# Altium footprint library PcbLib1.PcbLib: 202 footprints (part 4 of 13)
Each footprint in its own frame and in the unit in brackets; x right, y up, seen from the top. Pads: shape width x height; smd on the part's side, far side on the other; paste and mask are expansions set on the pad; w line width, h text height; cw(c..) or ccw(c..) is an arc to the next point about the centre after c.
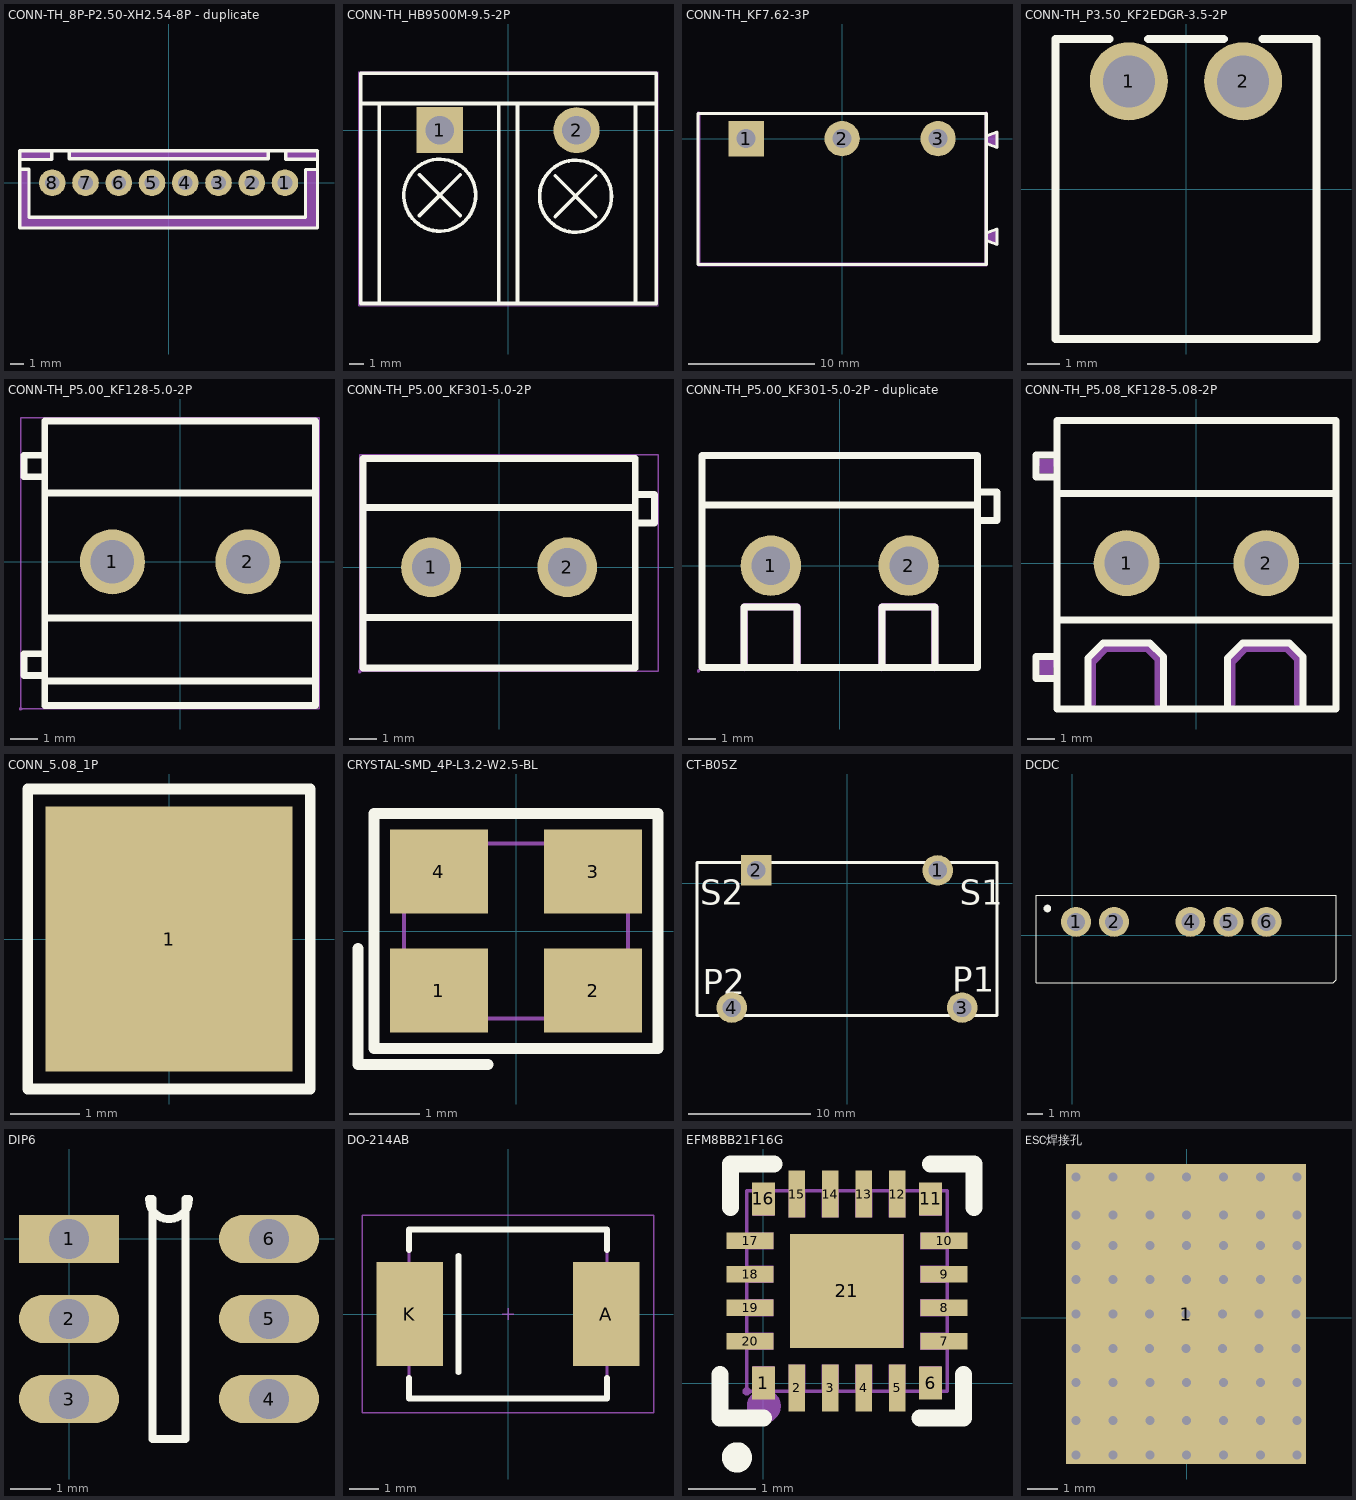
[diagram p3: the footprints below, top view; thin cyan lines are the x and y axes]

## CONN-TH_8P-P2.50-XH2.54-8P - duplicate [mil]
pads (8):
  round 78.7 hole 43.3: 1(344.5,0) 2(246.1,0) 3(147.7,0) 4(49.2,0) 5(-49.2,0) 6(-147.6,0) 7(-246,0) 8(-344.5,0)
Top Overlay:
  lines w10: -440.9,40 -413.4,40 -413.4,-102.4 405.5,-102.4 405.5,39.3 441,39.3 ; -440.9,68.9 -346.4,68.9 -346.4,94.4 ; -294,94.4 -294,70.8 295.3,70.8 295.3,94.4 ; 346.5,94.4 346.5,69.2 441,69.2 ; -440.9,-133.9 441,-133.9 441,94.4 -440.9,94.4 -440.9,-133.9
Mechanical 2:
  region: -440.9,66.9 -440.9,94.4 -346.4,94.4 -346.4,68.9 -348.5,66.9
  region: -291.3,94.4 -291.3,73.5 -294,70.8 295.3,70.8 295.3,94.4
  region: 346.5,94.4 346.5,69.2 441,69.2 441,94.4
  region: 405.5,39.3 441,39.3 441,-133.9 -440.9,-133.9 -440.9,40 -413.4,40 -413.4,-102.4 405.5,-102.4
Mechanical 6:
  lines w2: -442.9,-133.9 442.9,-133.9 442.9,94.4 -442.9,94.4 -442.9,-133.9
Mechanical 8:
  region: 445.3,94.4 444.9,93.2 443.9,92.3 442.6,92.1 441.4,92.7 440.7,93.8 440.7,95.1 441.4,96.2 442.6,96.8 443.9,96.6 444.9,95.7
Mechanical 9:
  region: 331.9,12.6 357.1,12.6 357.1,-12.6 331.9,-12.6
  region: 233.5,12.6 258.7,12.6 258.7,-12.6 233.5,-12.6
  region: 135.1,12.6 160.3,12.6 160.3,-12.6 135.1,-12.6
  region: 36.6,12.6 61.8,12.6 61.8,-12.6 36.6,-12.6
  region: -61.8,12.6 -36.6,12.6 -36.6,-12.6 -61.8,-12.6
  region: -160.2,12.6 -135,12.6 -135,-12.6 -160.2,-12.6
  region: -258.6,12.6 -233.4,12.6 -233.4,-12.6 -258.6,-12.6
  region: -357.1,12.6 -331.9,12.6 -331.9,-12.6 -357.1,-12.6

## CONN-TH_HB9500M-9.5-2P [mm]
pads (2):
  rect 3.21x3.2 hole 2: 1(-4.75,0)
  round 3.2 hole 2: 2(4.75,0)
Top Overlay:
  circle w0.254: c4.68,-4.59 r2.5
  circle w0.254: c-4.75,-4.52 r2.5
  lines w0.254: -10.25,1.855 10.25,1.855 ; -8.95,-12.051 -8.95,1.749 ; -6.164,-5.934 -3.336,-3.106 ; -6.164,-3.106 -3.336,-5.934 ; -0.65,-12.051 -0.65,1.749 ; 0.65,-12.051 0.65,1.749 ; 3.266,-6.004 6.094,-3.176 ; 3.266,-3.176 6.094,-6.004 ; 8.85,-12.051 8.85,1.749 ; 10.25,-12.051 -10.25,-12.051 -10.25,3.949 10.25,3.949 ; 10.287,-12.065 10.287,3.937
Mechanical 15:
  region: -3.85,0 -3.85,0.118 -3.911,0.347 -4.03,0.553 -4.197,0.72 -4.403,0.839 -4.632,0.9 -4.869,0.9 -5.098,0.839 -5.303,0.72 -5.47,0.553 -5.589,0.347 -5.65,0.118 -5.65,0 -5.65,-0.119 -5.589,-0.347 -5.47,-0.553 -5.303,-0.72 -5.097,-0.839 -4.869,-0.9 -4.632,-0.9 -4.403,-0.839 -4.197,-0.72 -4.03,-0.553 -3.911,-0.347 -3.85,-0.118
  region: 5.65,0 5.65,0.118 5.589,0.347 5.47,0.553 5.303,0.72 5.097,0.839 4.868,0.9 4.632,0.9 4.403,0.839 4.197,0.72 4.03,0.553 3.911,0.347 3.85,0.118 3.85,0 3.85,-0.119 3.911,-0.347 4.03,-0.553 4.197,-0.72 4.403,-0.839 4.632,-0.9 4.869,-0.9 5.097,-0.839 5.303,-0.72 5.47,-0.553 5.589,-0.347 5.65,-0.118
  region: -10.317,-12.192 -10.317,-12.167 -10.352,-12.132 -10.402,-12.132 -10.437,-12.167 -10.437,-12.192 -10.437,-12.217 -10.402,-12.252 -10.352,-12.252 -10.317,-12.217
  lines w0.051: -10.377,-12.192 10.414,-12.192 10.414,4.077 -10.377,4.077 -10.377,-12.192

## CONN-TH_KF7.62-3P [mm]
pads (3):
  rect 2.8x2.8 hole 1.5: 1(-7.62,0)
  round 2.8 hole 1.5: 2(0,0) 3(7.62,0)
Top Overlay:
  lines w0.254: -11.45,-10 11.45,-10 11.45,2 -11.45,2 -11.45,-9.95 ; 11.45,-8.093 12.301,-8.401 12.301,-7.181 11.45,-7.489 ; 11.45,-0.392 12.3,-0.701 12.3,0.52 11.45,0.211
Mechanical 6:
  region: -11.273,2 -11.273,-9.873 11.323,-9.873 11.323,2 11.323,2.053 11.397,2.127 11.503,2.127 11.577,2.053 11.577,2 11.577,-10 11.577,-10.025 11.558,-10.072 11.522,-10.108 11.475,-10.127 11.45,-10.127 -11.4,-10.127 -11.425,-10.127 -11.472,-10.108 -11.508,-10.072 -11.527,-10.025 -11.527,-10 -11.527,2 -11.527,2.053 -11.453,2.127 -11.347,2.127 -11.273,2.053
  region: 12.299,-0.7 12.299,0.52 11.449,0.22 11.449,-0.38
  region: 12.301,-8.401 12.301,-7.181 11.45,-7.481 11.45,-8.081
Mechanical 15:
  region: -11.37,-10 -11.371,-9.976 -11.406,-9.942 -11.454,-9.942 -11.489,-9.976 -11.49,-10 -11.489,-10.024 -11.454,-10.058 -11.406,-10.058 -11.371,-10.024
  region: -8.22,0.3 -7.02,0.3 -7.02,-0.3 -8.22,-0.3
  region: -0.6,0.3 0.6,0.3 0.6,-0.3 -0.6,-0.3
  region: 7.02,0.3 8.22,0.3 8.22,-0.3 7.02,-0.3
  lines w0.051: -11.43,-10 -11.43,2 11.43,2 11.43,-10 -11.43,-10

## CONN-TH_P3.50_KF2EDGR-3.5-2P [mm]
pads (2):
  round 2.4 hole 1.6 paste-2539.97 mask+0.051: 1(-1.75,3.3) 2(1.75,3.3)
Top Overlay:
  lines w0.254: -2.345,4.6 -4,4.6 -4,-4.6 4,-4.6 4,4.6 2.345,4.6 ; -1.155,4.6 1.155,4.6

## CONN-TH_P5.00_KF128-5.0-2P [mm]
pads (2):
  round 2.4 hole 1.6: 1(-2.5,0) 2(2.5,0)
Top Overlay:
  lines w0.254: -5,-4.405 5,-4.405 ; -5,-4.191 -5.762,-4.191 -5.762,-3.393 -5,-3.393 ; -5,-2.073 5,-2.073 ; -5,2.537 5,2.537 ; -5,3.139 -5.762,3.139 -5.762,3.937 -5,3.937 ; -5,5.2 5,5.2 5,-5.3 -5,-5.3 -5,5.2
Mechanical 15:
  region: -1.8,0 -1.801,0.092 -1.85,0.268 -1.942,0.426 -2.072,0.555 -2.231,0.646 -2.408,0.693 -2.592,0.693 -2.769,0.646 -2.928,0.555 -3.058,0.426 -3.15,0.268 -3.199,0.091 -3.2,0 -3.199,-0.092 -3.15,-0.268 -3.058,-0.426 -2.927,-0.555 -2.769,-0.646 -2.592,-0.693 -2.408,-0.693 -2.231,-0.646 -2.072,-0.555 -1.942,-0.426 -1.85,-0.268 -1.801,-0.092
  region: 3.2,0 3.199,0.092 3.15,0.268 3.058,0.426 2.928,0.555 2.769,0.646 2.592,0.693 2.408,0.693 2.231,0.646 2.072,0.555 1.942,0.426 1.85,0.268 1.801,0.091 1.8,0 1.801,-0.092 1.85,-0.268 1.942,-0.426 2.073,-0.555 2.231,-0.646 2.408,-0.693 2.592,-0.693 2.769,-0.646 2.928,-0.555 3.058,-0.426 3.15,-0.268 3.199,-0.092
  region: -5.829,-5.427 -5.829,-5.402 -5.864,-5.367 -5.914,-5.367 -5.949,-5.402 -5.949,-5.427 -5.949,-5.452 -5.914,-5.487 -5.864,-5.487 -5.829,-5.452
  lines w0.051: -5.889,-5.427 5.127,-5.427 5.127,5.327 -5.889,5.327 -5.889,-5.427

## CONN-TH_P5.00_KF301-5.0-2P [mm]
pads (2):
  round 2.2 hole 1.4: 1(-2.5,0) 2(2.5,0)
Top Overlay:
  lines w0.254: -5,-1.845 5,-1.845 ; -5,2.201 5,2.201 ; 5.08,1.626 5.708,1.626 5.708,2.667 5.08,2.667 ; -5,-3.7 -5,4 5,4 5,-3.7 -5,-3.7
Mechanical 15:
  region: -1.9,0 -1.902,0.118 -1.994,0.336 -2.163,0.502 -2.382,0.592 -2.618,0.592 -2.837,0.502 -3.006,0.336 -3.098,0.118 -3.1,0 -3.098,-0.118 -3.006,-0.336 -2.837,-0.502 -2.618,-0.592 -2.382,-0.592 -2.163,-0.502 -1.994,-0.336 -1.902,-0.118
  region: 3.1,0 3.098,0.118 3.006,0.336 2.837,0.502 2.618,0.592 2.382,0.592 2.163,0.502 1.994,0.336 1.902,0.118 1.9,0 1.902,-0.118 1.994,-0.336 2.163,-0.502 2.382,-0.592 2.618,-0.592 2.837,-0.502 3.006,-0.336 3.098,-0.118
  region: -5.067,-3.827 -5.067,-3.802 -5.102,-3.767 -5.152,-3.767 -5.187,-3.802 -5.187,-3.827 -5.187,-3.852 -5.152,-3.887 -5.102,-3.887 -5.067,-3.852
  lines w0.051: -5.127,-3.827 5.835,-3.827 5.835,4.127 -5.127,4.127 -5.127,-3.827

## CONN-TH_P5.00_KF301-5.0-2P - duplicate [mm]
pads (2):
  round 2.2 hole 1.4 paste-2539.97 mask+0.051: 1(-2.499,0) 2(2.499,0)
Top Overlay:
  lines w0.254: -4.999,2.202 5.001,2.202 ; -3.47,-3.701 -3.47,-1.501 -1.549,-1.501 -1.549,-3.701 ; 1.532,-3.698 1.532,-1.499 3.449,-1.499 3.449,-3.698 ; 5.08,1.628 5.707,1.628 5.707,2.667 5.08,2.667 ; -4.999,-3.698 5.001,-3.698 5.001,4 -4.999,4 -4.999,-3.698
Mechanical 2:
  region: 1.405,-3.701 1.405,-1.501 1.415,-1.453 1.443,-1.41 1.483,-1.384 1.532,-1.374 3.452,-1.374 3.5,-1.384 3.541,-1.41 3.569,-1.453 3.579,-1.501 3.579,-3.701 3.569,-3.749 3.541,-3.79 3.5,-3.818 3.452,-3.828 3.404,-3.818 3.363,-3.79 3.335,-3.749 3.325,-3.701 3.325,-1.628 1.659,-1.628 1.659,-3.701 1.648,-3.749 1.621,-3.79 1.58,-3.818 1.532,-3.828 1.483,-3.818 1.443,-3.79 1.415,-3.749
  region: -3.597,-3.701 -3.597,-1.501 -3.586,-1.453 -3.559,-1.41 -3.518,-1.382 -3.47,-1.374 -1.549,-1.374 -1.499,-1.382 -1.458,-1.41 -1.43,-1.453 -1.422,-1.501 -1.422,-3.701 -1.43,-3.749 -1.458,-3.79 -1.499,-3.818 -1.549,-3.828 -1.598,-3.818 -1.638,-3.79 -1.666,-3.749 -1.676,-3.701 -1.676,-1.628 -3.343,-1.628 -3.343,-3.701 -3.35,-3.749 -3.378,-3.79 -3.419,-3.818 -3.47,-3.828 -3.518,-3.818 -3.559,-3.79 -3.586,-3.749
Mechanical 6:
  lines w0.051: -4.999,-3.599 5.001,-3.599 5.001,4 -4.999,4 -4.999,-3.599
Mechanical 8:
  region: -5.067,-3.825 -5.077,-3.858 -5.103,-3.881 -5.136,-3.886 -5.166,-3.871 -5.184,-3.843 -5.184,-3.81 -5.166,-3.782 -5.136,-3.767 -5.103,-3.772 -5.077,-3.795
Mechanical 9:
  region: -1.999,0 -2.009,-0.097 -2.037,-0.191 -2.083,-0.277 -2.146,-0.353 -2.222,-0.414 -2.309,-0.462 -2.403,-0.49 -2.499,-0.5 -2.596,-0.49 -2.69,-0.462 -2.776,-0.414 -2.852,-0.353 -2.916,-0.277 -2.962,-0.191 -2.99,-0.097 -3,0 -2.99,0.099 -2.962,0.193 -2.916,0.279 -2.852,0.356 -2.776,0.417 -2.69,0.462 -2.596,0.49 -2.499,0.5 -2.403,0.49 -2.309,0.462 -2.222,0.417 -2.146,0.356 -2.083,0.279 -2.037,0.193 -2.009,0.099
  region: 3,0 2.99,-0.097 2.962,-0.191 2.916,-0.277 2.855,-0.353 2.779,-0.414 2.692,-0.462 2.598,-0.49 2.499,-0.5 2.403,-0.49 2.309,-0.462 2.222,-0.414 2.146,-0.353 2.085,-0.277 2.04,-0.191 2.009,-0.097 2.002,0 2.009,0.099 2.04,0.193 2.085,0.279 2.146,0.356 2.222,0.417 2.309,0.462 2.403,0.49 2.499,0.5 2.598,0.49 2.692,0.462 2.779,0.417 2.855,0.356 2.916,0.279 2.962,0.193 2.99,0.099

## CONN-TH_P5.08_KF128-5.08-2P [mm]
pads (2):
  round 2.4 hole 1.6: 1(-2.54,0) 2(2.54,0)
Top Overlay:
  lines w0.254: -5.08,-4.191 -5.842,-4.191 -5.842,-3.393 -5.08,-3.393 ; -5.08,-2.073 5.08,-2.073 ; -5.08,2.537 5.08,2.537 ; -5.08,3.139 -5.842,3.139 -5.842,3.937 -5.08,3.937 ; -5.08,5.2 5.08,5.2 5.08,-5.3 -5.08,-5.3 -5.08,5.2 ; -3.95,-5.3 -3.95,-3.45 -3.4,-2.9 -1.7,-2.9 -1.2,-3.4 -1.2,-5.3 ; 1.13,-5.3 1.13,-3.45 1.68,-2.9 3.38,-2.9 3.88,-3.4 3.88,-5.3
Mechanical 6:
  region: 1.153,-5.1 1.153,-3.6 1.153,-3.587 1.158,-3.563 1.167,-3.54 1.181,-3.519 1.19,-3.51 1.69,-3.01 1.699,-3.001 1.72,-2.987 1.743,-2.978 1.767,-2.973 1.78,-2.973 3.28,-2.973 3.293,-2.973 3.317,-2.978 3.34,-2.987 3.361,-3.001 3.37,-3.01 3.77,-3.41 3.779,-3.419 3.793,-3.44 3.802,-3.463 3.807,-3.487 3.807,-3.5 3.807,-5.1 3.807,-5.153 3.733,-5.227 3.627,-5.227 3.553,-5.153 3.553,-5.1 3.553,-3.553 3.227,-3.227 1.833,-3.227 1.407,-3.653 1.407,-5.1 1.407,-5.153 1.333,-5.227 1.227,-5.227 1.153,-5.153
  region: -3.927,-5.1 -3.927,-3.6 -3.927,-3.587 -3.922,-3.563 -3.913,-3.54 -3.899,-3.519 -3.89,-3.51 -3.39,-3.01 -3.381,-3.001 -3.36,-2.987 -3.337,-2.978 -3.313,-2.973 -3.3,-2.973 -1.8,-2.973 -1.787,-2.973 -1.763,-2.978 -1.74,-2.987 -1.719,-3.001 -1.71,-3.01 -1.31,-3.41 -1.301,-3.419 -1.287,-3.44 -1.278,-3.463 -1.273,-3.487 -1.273,-3.5 -1.273,-5.1 -1.273,-5.153 -1.347,-5.227 -1.453,-5.227 -1.527,-5.153 -1.527,-5.1 -1.527,-3.553 -1.853,-3.227 -3.247,-3.227 -3.673,-3.653 -3.673,-5.1 -3.673,-5.153 -3.747,-5.227 -3.853,-5.227 -3.927,-5.153
  region: -5.2,-3.53 -5.71,-3.53 -5.71,-4.06 -5.22,-4.06
  region: -5.2,3.79 -5.72,3.79 -5.71,3.28 -5.22,3.26
Mechanical 15:
  region: -2.99,-0.4 -2.99,0.4 -2.09,0.4 -2.09,-0.4
  region: 2.09,-0.4 2.09,0.4 2.99,0.4 2.99,-0.4
  region: -5.02,-5.3 -5.021,-5.276 -5.056,-5.242 -5.104,-5.242 -5.139,-5.276 -5.14,-5.3 -5.139,-5.324 -5.104,-5.358 -5.056,-5.358 -5.021,-5.324
  lines w0.051: -5.08,-5.3 -5.08,5.3 5.08,5.3 5.08,-5.3 -5.08,-5.3

## CONN_5.08_1P [mil]
pads (1):
  rect 140x150 smd: 1(0,0)
Top Overlay:
  lines w6: -80,-85 -80,85 80,85 80,-85 -80,-85

## CRYSTAL-SMD_4P-L3.2-W2.5-BL [mm]
pads (4):
  rect 1.4x1.2 smd: 1(-1.1,-0.85) 2(1.1,-0.85) 3(1.1,0.85) 4(-1.1,0.85)
Top Overlay:
  lines w0.152: -2.257,-0.25 -2.257,-1.907 -0.4,-1.907 ; -2.029,-1.678 -2.029,1.679 2.029,1.679 2.029,-1.678 -2.029,-1.678
Mechanical 6:
  circle w0.36: c-1.143,-0.889 r0.18
Mechanical 15:
  region: -1.54,-1.25 -1.54,-1.225 -1.575,-1.19 -1.625,-1.19 -1.66,-1.225 -1.66,-1.25 -1.66,-1.275 -1.625,-1.31 -1.575,-1.31 -1.54,-1.275
  region: -1.5,1.15 -0.6,1.15 -0.6,0.35 -1.5,0.35
  region: 0.6,1.15 1.5,1.15 1.5,0.35 0.6,0.35
  region: 0.6,-0.35 1.5,-0.35 1.5,-1.15 0.6,-1.15
  region: -1.5,-0.35 -0.6,-0.35 -0.6,-1.15 -1.5,-1.15
  lines w0.051: -1.6,-1.25 -1.6,1.25 1.6,1.25 1.6,-1.25 -1.6,-1.25

## CT-B05Z [mm]
pads (4):
  round 2.5 hole 1.5 paste-2539.97 mask+0.102: 1(7.4,1.036) 3(9.4,-10.165) 4(-9.4,-10.165)
  rect 2.5x2.5 hole 1.5 paste-2539.97 mask+0.102: 2(-7.4,1.036)
Top Overlay:
  lines w0.254: -12.25,-10.814 12.25,-10.814 12.25,1.686 -12.25,1.686 -12.25,-10.814
  text "P1" at 8.6,-8.88 h2.03
  text "P2" at -11.8,-9.081 h2.03
  text "S2" at -12,-1.78 h2.03
  text "S1" at 9.2,-1.78 h2.03

## DCDC [mm]
pads (5):
  round 2 hole 1.2: 1(0.254,0.889) 2(2.794,0.889) 4(7.874,0.889) 5(10.414,0.889) 6(12.954,0.889)
Top Overlay:
  circle w0.254: c-1.651,1.778 r0.127
  lines w0.025: -2.413,-3.175 17.394,-3.175 17.587,-2.982 17.587,2.667 -2.413,2.667 -2.413,-3.175

## DIP6 [mm]
pads (6):
  rect 2.5x1.2 hole 1: 1(0,0)
  oval 2.5x1.2 hole 1: 2(0,-2) 3(0,-4) 4(5,-4) 5(5,-2) 6(5,0)
Top Overlay:
  lines w0.2: 2,1 ccw(c2.5,1) 3,1 2.915,1 2.915,-5 2.085,-5 2.085,1 2,1

## DO-214AB [mil]
pads (2):
  rect 90x140 smd: A(132.87,0) K(-132.87,0)
Top Overlay:
  lines w7.87: -133.86,-86.61 -133.86,-114.17 133.86,-114.17 133.86,-86.61 ; -133.86,86.61 -133.86,114.17 133.86,114.17 133.86,86.61 ; -66.93,-78.74 -66.93,78.74
Mechanical 13:
  lines w3.94: -133.86,-62.99 -153.54,-62.99 -153.54,62.99 -133.86,62.99 ; 133.86,-62.99 153.54,-62.99 153.54,62.99 133.86,62.99 ; -133.86,-114.17 -133.86,114.17 133.86,114.17 133.86,-114.17 -133.86,-114.17
Mechanical 15:
  lines w1.97: -7.87,0 7.87,0 ; 0,-7.87 0,7.87 ; -196.85,-133.86 196.85,-133.86 196.85,133.86 -196.85,133.86 -196.85,-133.86
3D body: height 39.37, standoff 0, extent -153.52,-62.97 -133.88,62.97
3D body: height 90.55, standoff 0, extent -133.84,-114.15 133.84,114.15
3D body: height 39.37, standoff 0, extent 133.88,-62.97 153.52,62.97

## EFM8BB21F16G [mil]
pads (21):
  rect 13.4x19.7 smd mask+1.97: 1(0,0) 6(98.5,0) 11(98.5,108.4) 16(0,108.4)
  rect 9.8x27.6 smd mask+1.97: 2(19.7,-2.9) 3(39.4,-2.9) 4(59.1,-2.9) 5(78.8,-2.9) 12(78.8,111.3) 13(59.1,111.3) 14(39.4,111.3) 15(19.7,111.3)
  rect 27.6x9.8 smd mask+1.97: 7(106.4,24.7) 8(106.4,44.4) 9(106.4,64) 10(106.4,83.7) 17(-7.8,83.7) 18(-7.8,64) 19(-7.8,44.4) 20(-7.8,24.7)
  rect 66.9x66.9 smd mask+1.97: 21(49.2,54.2)
Top Overlay:
  circle w10: c-15.6,-43.8 r3.9
  lines w10: -25.6,5 -25.6,-20.6 0,-20.6 ; -19.3,103.4 -19.3,129 6.3,129 ; 92.2,-20.6 117.8,-20.6 117.8,5 ; 98.5,129 124.1,129 124.1,103.4
Mechanical 6:
  circle w10: c0.3,-13.6 r5
Mechanical 15:
  region: -7.4,-4.9 -7.4,-3.91 -8.81,-2.5 -10.79,-2.5 -12.2,-3.91 -12.2,-4.9 -12.2,-5.89 -10.79,-7.3 -8.81,-7.3 -7.4,-5.89
  region: 15.8,87.7 82.7,87.7 82.7,20.7 15.8,20.7
  region: -6.3,111.2 6.3,111.2 6.3,98.6 -6.3,98.6
  region: -6.3,9.8 6.3,9.8 6.3,-2.8 -6.3,-2.8
  region: 92.2,111.2 104.8,111.2 104.8,98.6 92.2,98.6
  region: 92.2,9.8 104.8,9.8 104.8,-2.8 92.2,-2.8
  region: -9.8,29.6 5.9,29.6 5.9,19.7 -9.8,19.7
  region: -9.8,49.3 5.9,49.3 5.9,39.4 -9.8,39.4
  region: -9.8,69 5.9,69 5.9,59.1 -9.8,59.1
  region: -9.8,88.6 5.9,88.6 5.9,78.8 -9.8,78.8
  region: 14.8,113.3 24.6,113.3 24.6,97.5 14.8,97.5
  region: 34.5,113.3 44.3,113.3 44.3,97.5 34.5,97.5
  region: 54.2,113.3 64,113.3 64,97.5 54.2,97.5
  region: 73.8,113.3 83.7,113.3 83.7,97.5 73.8,97.5
  region: 92.5,88.6 108.3,88.6 108.3,78.8 92.5,78.8
  region: 92.5,69 108.3,69 108.3,59.1 92.5,59.1
  region: 92.5,49.3 108.3,49.3 108.3,39.4 92.5,39.4
  region: 92.5,29.6 108.3,29.6 108.3,19.7 92.5,19.7
  region: 73.8,10.9 83.7,10.9 83.7,-4.9 73.8,-4.9
  region: 54.2,10.9 64,10.9 64,-4.9 54.2,-4.9
  region: 34.5,10.9 44.3,10.9 44.3,-4.9 34.5,-4.9
  region: 14.8,10.9 24.6,10.9 24.6,-4.9 14.8,-4.9
  lines w2: -9.8,-4.9 108.3,-4.9 108.3,113.3 -9.8,113.3 -9.8,-4.9

## ESC焊接孔 [mm]
pads (1):
  rect 8x10 all layers, no hole: 1(-0.021,0.127)
via -2.462,0.127 diameter 0.6 hole 0.3
via -2.455,-2.159 diameter 0.6 hole 0.3
via -2.462,-1.016 diameter 0.6 hole 0.3
via -2.455,1.27 diameter 0.6 hole 0.3
via -2.455,-4.572 diameter 0.6 hole 0.3
via -2.455,-3.429 diameter 0.6 hole 0.3
via -2.455,2.413 diameter 0.6 hole 0.3
via -2.455,3.429 diameter 0.6 hole 0.3
via -2.455,4.699 diameter 0.6 hole 0.3
via -1.242,-1.016 diameter 0.6 hole 0.3
via -1.242,0.127 diameter 0.6 hole 0.3
via -1.228,1.27 diameter 0.6 hole 0.3
via -1.228,4.699 diameter 0.6 hole 0.3
via -1.228,-4.572 diameter 0.6 hole 0.3
via -1.228,-3.429 diameter 0.6 hole 0.3
via -1.228,2.413 diameter 0.6 hole 0.3
via -1.228,-2.159 diameter 0.6 hole 0.3
via -1.228,3.429 diameter 0.6 hole 0.3
via 0,2.413 diameter 0.6 hole 0.3
via 0,-2.159 diameter 0.6 hole 0.3
via 0,4.699 diameter 0.6 hole 0.3
via 0,3.429 diameter 0.6 hole 0.3
via 0,-3.429 diameter 0.6 hole 0.3
via 0,-4.572 diameter 0.6 hole 0.3
via -0.021,0.127 diameter 0.6 hole 0.3
via 0,1.27 diameter 0.6 hole 0.3
via -0.021,-1.016 diameter 0.6 hole 0.3
via 1.199,-1.016 diameter 0.6 hole 0.3
via 1.228,4.699 diameter 0.6 hole 0.3
via 1.228,3.429 diameter 0.6 hole 0.3
via 1.228,2.413 diameter 0.6 hole 0.3
via 1.228,-2.159 diameter 0.6 hole 0.3
via 1.228,-3.429 diameter 0.6 hole 0.3
via 1.228,-4.572 diameter 0.6 hole 0.3
via 1.199,0.127 diameter 0.6 hole 0.3
via 1.228,1.27 diameter 0.6 hole 0.3
via 2.42,0.127 diameter 0.6 hole 0.3
via 2.42,-1.016 diameter 0.6 hole 0.3
via 2.455,1.27 diameter 0.6 hole 0.3
via 2.455,2.413 diameter 0.6 hole 0.3
via 2.455,-2.159 diameter 0.6 hole 0.3
via 2.455,-4.572 diameter 0.6 hole 0.3
via 2.455,4.699 diameter 0.6 hole 0.3
via 2.455,-3.429 diameter 0.6 hole 0.3
via 2.455,3.429 diameter 0.6 hole 0.3
via 3.641,0.127 diameter 0.6 hole 0.3
via 3.641,-1.016 diameter 0.6 hole 0.3
via 3.683,1.27 diameter 0.6 hole 0.3
via 3.683,-3.429 diameter 0.6 hole 0.3
via 3.683,-2.159 diameter 0.6 hole 0.3
via 3.683,2.413 diameter 0.6 hole 0.3
via 3.683,3.429 diameter 0.6 hole 0.3
via 3.683,4.699 diameter 0.6 hole 0.3
via 3.683,-4.572 diameter 0.6 hole 0.3
via -3.683,-1.016 diameter 0.6 hole 0.3
via -3.683,0.127 diameter 0.6 hole 0.3
via -3.683,1.27 diameter 0.6 hole 0.3
via -3.683,-4.572 diameter 0.6 hole 0.3
via -3.683,-3.429 diameter 0.6 hole 0.3
via -3.683,-2.159 diameter 0.6 hole 0.3
via -3.683,2.413 diameter 0.6 hole 0.3
via -3.683,3.429 diameter 0.6 hole 0.3
via -3.683,4.699 diameter 0.6 hole 0.3